# Altium schematic symbol library Wacky_1.SchLib: 14 symbols
Pins are listed as number, name and electrical type; pins without a type are passive.

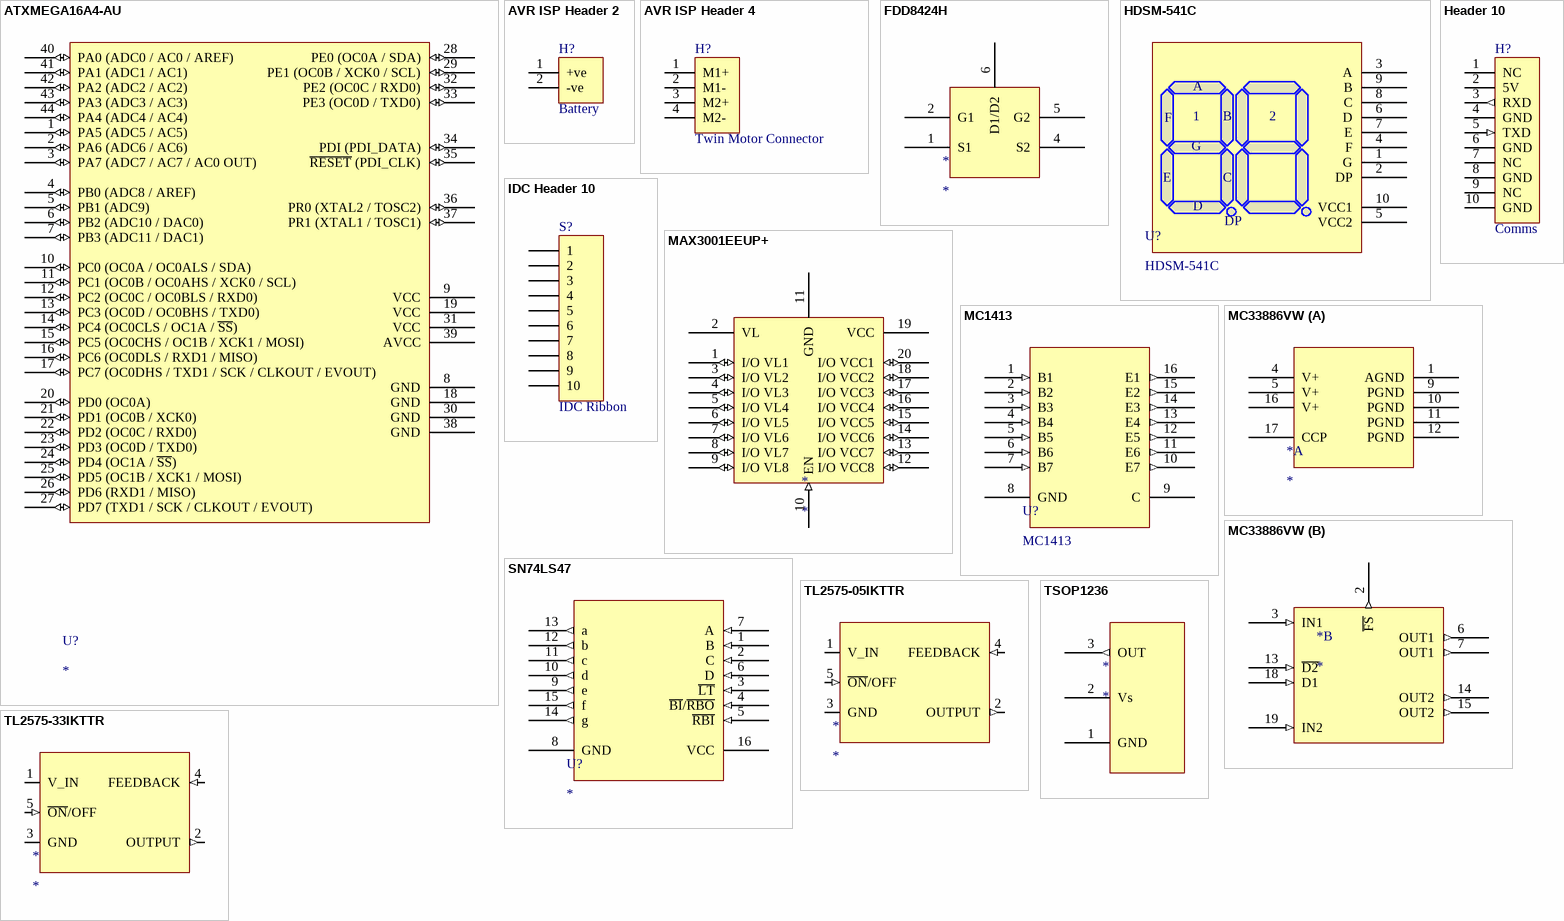
[diagram p0: symbols ATXMEGA16A4-AU to TSOP1236]

## ATXMEGA16A4-AU
designator U?
Manufacturer: ATMEL; Manufacturer PN: ATXMEGA16A4-AU; Supplier 1: Element 14; Supplier Part Number 1: 1748552
footprint TQFP80P1200X1200X120-44N (TQFP, 44-Leads, Body 12.3x12.3mm (max), Pitch 0.80mm, IPC Medium Density)
pins: 1 PA5 (ADC5 / AC5) (io), 2 PA6 (ADC6 / AC6) (io), 3 PA7 (ADC7 / AC7 / AC0 OUT) (io), 4 PB0 (ADC8 / AREF) (io), 5 PB1 (ADC9) (io), 6 PB2 (ADC10 / DAC0) (io), 7 PB3 (ADC11 / DAC1) (io), 8 GND, 9 VCC, 10 PC0 (OC0A / OC0ALS / SDA) (io), 11 PC1 (OC0B / OC0AHS / XCK0 / SCL) (io), 12 PC2 (OC0C / OC0BLS / RXD0) (io), 13 PC3 (OC0D / OC0BHS / TXD0) (io), 14 PC4 (OC0CLS / OC1A / ~{SS}) (io), 15 PC5 (OC0CHS / OC1B / XCK1 / MOSI) (io), 16 PC6 (OC0DLS / RXD1 / MISO) (io), 17 PC7 (OC0DHS / TXD1 / SCK / CLKOUT / EVOUT) (io), 18 GND, 19 VCC, 20 PD0 (OC0A) (io), 21 PD1 (OC0B / XCK0) (io), 22 PD2 (OC0C / RXD0) (io), 23 PD3 (OC0D / TXD0) (io), 24 PD4 (OC1A / ~{SS}) (io), 25 PD5 (OC1B / XCK1 / MOSI) (io), 26 PD6 (RXD1 / MISO) (io), 27 PD7 (TXD1 / SCK / CLKOUT / EVOUT) (io), 28 PE0 (OC0A / SDA) (io), 29 PE1 (OC0B / XCK0 / SCL) (io), 30 GND, 31 VCC, 32 PE2 (OC0C / RXD0) (io), 33 PE3 (OC0D / TXD0) (io), 34 PDI (PDI_DATA) (io), 35 ~{RESET} (PDI_CLK) (io), 36 PR0 (XTAL2 / TOSC2) (io), 37 PR1 (XTAL1 / TOSC1) (io), 38 GND, 39 AVCC, 40 PA0 (ADC0 / AC0 / AREF) (io), 41 PA1 (ADC1 / AC1) (io), 42 PA2 (ADC2 / AC2) (io), 43 PA3 (ADC3 / AC3) (io), 44 PA4 (ADC4 / AC4) (io)

## AVR ISP Header 2
designator H?, comment Battery
5.08mm Pluggable Terminal Header; LatestRevisionDate: 17-Jul-2002; LatestRevisionNote: Re-released for DXP Platform.; Publisher: Altium Limited
signal-integrity model Connector
footprint TMHDR2 (5.08mm Pluggable Terminal Header)
pins: 1 +ve (power), 2 -ve (power)

## AVR ISP Header 4
designator H?, comment Twin Motor Connector
5.08mm Pluggable Terminal Header; LatestRevisionDate: 17-Jul-2002; LatestRevisionNote: Re-released for DXP Platform.; Publisher: Altium Limited
signal-integrity model Connector
footprint TMHDR4 (5.08mm Pluggable Terminal Header)
pins: 1 M1+, 2 M1-, 3 M2+, 4 M2-

## FDD8424H
designator *
Manufacturer: Fairchild Semiconductor; Manufacturer PN: FDD8424H; Supplier 1: Digikey; Supplier Part Number 1: FDD8424HCT-ND
footprint TO114P990X239-5N (D-PAK, 5-Pads, Body 6.2x6.7mm (max), IPC Medium Density)
pins: 1 S1 (power), 2 G1, 3 DNC hidden, 4 S2 (power), 5 G2 (power), 6 D1/D2 (power)

## HDSM-541C
designator U?
2 character 7 segment display; Manufacturer: AVAGO TECHNOLOGIES; Manufacturer PN: HDSM-541C; Supplier 1: Digikey; Supplier Part Number 1: 516-2248-1-ND
footprint HDSM-541C (2 char 7 segment smt led display)
pins: 1 G, 2 DP, 3 A, 4 F, 5 VCC2, 6 D, 7 E, 8 C, 9 B, 10 VCC1

## Header 10
designator H?, comment Comms
Header, IDC 10-Pin; LatestRevisionDate: 17-Jul-2002; LatestRevisionNote: Re-released for DXP Platform.; Publisher: Altium Limited
signal-integrity model Connector
footprint 918510x323 (Connector; IDC, Low Profile Male Header, Thru-Hole; 10 Position; Right Angle; Pitch 2.54 mm; Body 20.32 x 8.9 x 9.2 mm (LxWxH))
pins: 1 NC, 2 5V (power), 3 RXD (out), 4 GND (power), 5 TXD (in), 6 GND (power), 7 NC, 8 GND (power), 9 NC, 10 GND (power)

## IDC Header 10
designator S?, comment IDC Ribbon
IDC Header, 10-Pin; LatestRevisionDate: 17-Jul-2002; LatestRevisionNote: Re-released for DXP Platform.; Publisher: Altium Limited
footprint HDR1X10 (Connector; Header; 10 Position)
signal-integrity model Connector
pins: 1, 2, 3, 4, 5, 6, 7, 8, 9, 10

## MAX3001EEUP+
designator *
Manufacturere: MAXIM INTEGRATED PRODUCTS; Manufacturer PN: MAX3001EEUP+; Supplier 1: Element 14; Supplier Part Number 1: 1379763
footprint TSOP65P640X110-20N (TSOP, 20-Leads, Body 6.6x4.5mm (max), Pitch 0.65mm, IPC Medium Density)
pins: 1 I/O VL1 (io), 2 VL (power), 3 I/O VL2 (io), 4 I/O VL3 (io), 5 I/O VL4 (io), 6 I/O VL5 (io), 7 I/O VL6 (io), 8 I/O VL7 (io), 9 I/O VL8 (io), 10 EN (in), 11 GND, 12 I/O VCC8 (io), 13 I/O VCC7 (io), 14 I/O VCC6 (io), 15 I/O VCC5 (io), 16 I/O VCC4 (io), 17 I/O VCC3 (io), 18 I/O VCC2 (io), 19 VCC (power), 20 I/O VCC1 (io)

## MC1413
designator U?
7 NPN Transistor Array; Manufacturer: ON Semiconductor; Manufacturer PN: MC1413DR2G; Supplier 1: Digikey; Supplier Part Number 1: MC1413DR2GOSCT-ND
footprint SOIC127P600X175-16N (SOIC, 16-Leads, Body 10.0x4.0mm (max), Pitch 1.27mm, IPC Medium Density)
pins: 1 B1 (in), 2 B2 (in), 3 B3 (in), 4 B4 (in), 5 B5 (in), 6 B6 (in), 7 B7 (in), 8 GND, 9 C (power), 10 E7 (out), 11 E6 (out), 12 E5 (out), 13 E4 (out), 14 E3 (out), 15 E2 (out), 16 E1 (out)

## MC33886VW
designator *
Manufacturer: FREESCALE SEMICONDUCTOR; Manufacturer PN: MC33886VW; Supplier 1: Element 14; Supplier Part Number 1: 1148371
footprint SOP127P1420X340_HS-20N (SOP, 20-Leads, Body 16.0x11.1mm (max), Pitch 1.27mm, IPC Medium Density)
part A pins: 1 AGND "Analog Ground", 4 V+ (power) "Positive Power Supply", 5 V+ (power) "Positive Power Supply", 8 DNC hidden "Do Not Connect", 9 PGND "Power Ground", 10 PGND "Power Ground", 11 PGND "Power Ground", 12 PGND "Power Ground", 16 V+ (power) "Positive Power Supply", 17 CCP "Charge Pump Capacitor", 20 DNC hidden "Do Not Connect"
part B pins: 2 ~{FS} (out) "Fault Status for H-Bridge", 3 IN1 (in) "Logic Input Control 1", 6 OUT1 (out) "H-Bridge Output 1", 7 OUT1 (out) "H-Bridge Output 1", 13 ~{D2} (in) "Disable 2", 14 OUT2 (out) "H-Bridge Output 2", 15 OUT2 (out) "H-Bridge Output 2", 18 D1 (in) "Disable 1", 19 IN2 (in) "Logic Input Control 2"

## SN74LS47
designator U?
SN74LS47; Manufacturer: Texas Instruments; Manufacturer PN: SN74LS47NSR; Supplier 1: Digikey; Supplier Part Number 1: 296-13223-1-ND
footprint SOP127P780X200-16N (SOP, 16-Leads, Body 10.5x5.6mm (max), Pitch 1.27mm, IPC Medium Density)
pins: 1 B (in), 2 C (in), 3 ~{LT} (in), 4 ~{BI}/~{RBO} (in), 5 ~{RBI} (in), 6 D (in), 7 A (in), 8 GND, 9 e (out), 10 d (out), 11 c (out), 12 b (out), 13 a (out), 14 g (out), 15 f (out), 16 VCC (power)

## TL2575-05IKTTR
designator *
Manufacturer: TEXAS INSTRUMENTS; Manufacturer PN: TL2575-05IKTTR; Supplier 1: TI Samples; Supplier Part Number 1: TL2575-05IKTTR
footprint TO170P1524X483-6N (D2-PAK, 6-Pads, Body 9.6x10.7mm (max), IPC Medium Density)
pins: 1 V_IN, 2 OUTPUT (out), 3 GND, 4 FEEDBACK (in), 5 ~{ON}/OFF (in), 6 GND hidden to GND

## TL2575-33IKTTR
designator *
Manufacturer: TEXAS INSTRUMENTS; Manufacturer PN: TL2575-33IKTTR; Supplier 1: TI Samples; Supplier Part Number 1: TL2575-33IKTTR
footprint TO170P1524X483-6N (D2-PAK, 6-Pads, Body 9.6x10.7mm (max), IPC Medium Density)
pins: 1 V_IN, 2 OUTPUT (out), 3 GND, 4 FEEDBACK (in), 5 ~{ON}/OFF (in), 6 GND hidden to GND

## TSOP1236
designator *
Manufacturer: VISHAY; Manufacturer PN: TSOP1236; Supplier Part Number 1: 4913048; Supplier 1: Element14
footprint TSOP1236 IR Receiver (Vishay IR Receiver Module)
pins: 1 GND (power), 2 Vs (power), 3 OUT (out)